# EAGLE library part LMH6639 (library ICs)
Very high performance, rail to rail output, 190MHz, 172V/uS slew, 10V single operational amplifier.
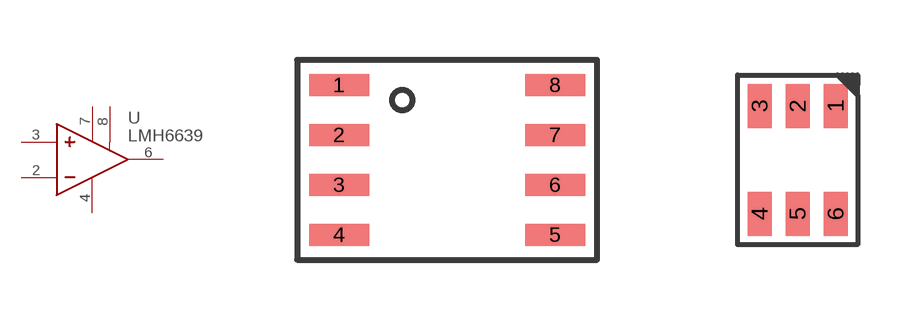
[diagram p17: symbol with the pads of SO8; footprints SO8, SOT23-6]

Designator prefix U

## LMH6639MA (FARNELL: 1286940)  [SO8]
2  -
3  +
4  V-
6  OUT
7  V+
8  SF

## LMH6639MF (FARNELL: 1312810; HEIGHT: 1.5; PRICE_PER: 1.01; VALUE: LMH6639)  [SOT23-6]
1  OUT
2  V-
3  +
4  -
5  SF
6  V+

## Footprint SO8 (pad centres in mm)
smd 1.5 x 0.55: 1 -2.7,1.875; 2 -2.7,0.625; 3 -2.7,-0.625; 4 -2.7,-1.875; 5 2.7,-1.875; 6 2.7,-0.625; 7 2.7,0.625; 8 2.7,1.875

## Footprint SOT23-6 (pad centres in mm)
smd 0.6 x 1.1: 1 0.95,1.35; 2 0,1.35; 3 -0.95,1.35; 4 -0.95,-1.35; 5 0,-1.35; 6 0.95,-1.35